# Altium schematic symbol library SCH - ARM CORTEX - ST STM32F750 TFBGA216.SCHLIB: 1 symbol
Pins are listed as number, name and electrical type; pins without a type are passive.

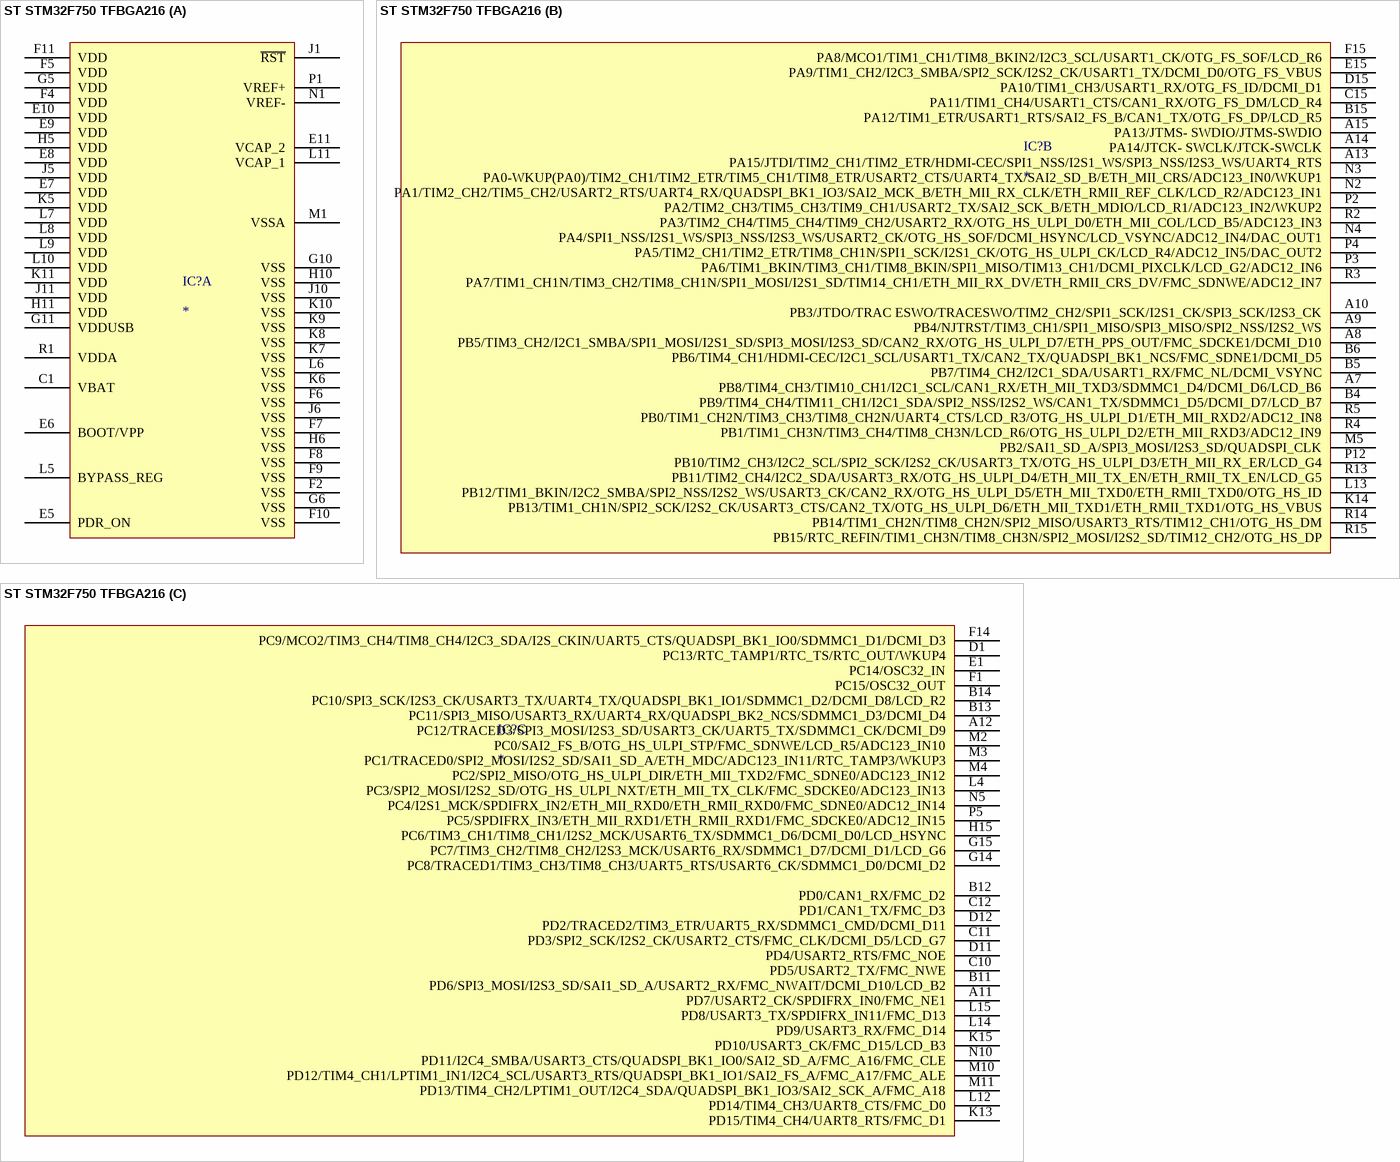
[diagram p0: symbol ST STM32F750 TFBGA216]

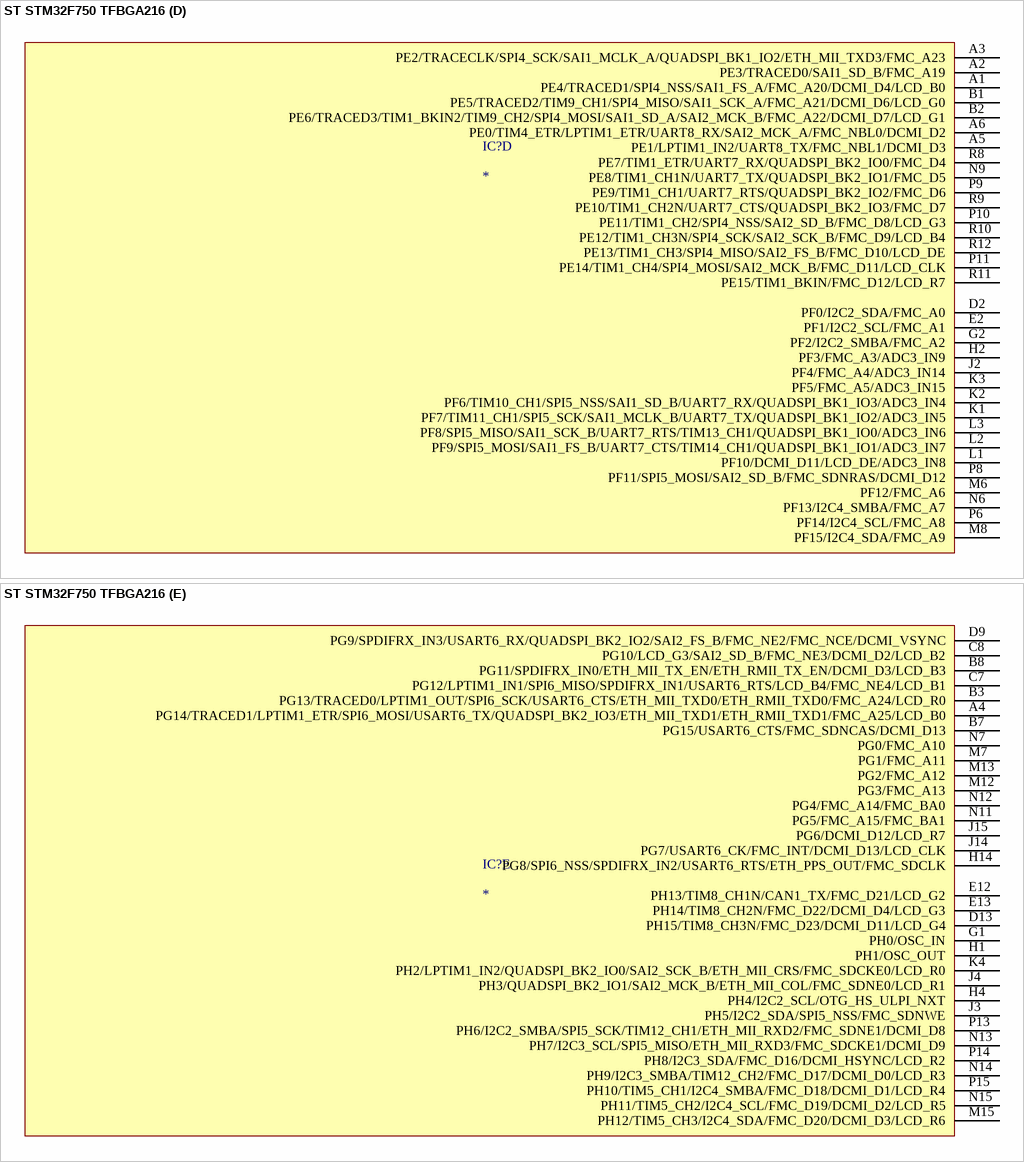
[diagram p1: symbol ST STM32F750 TFBGA216]

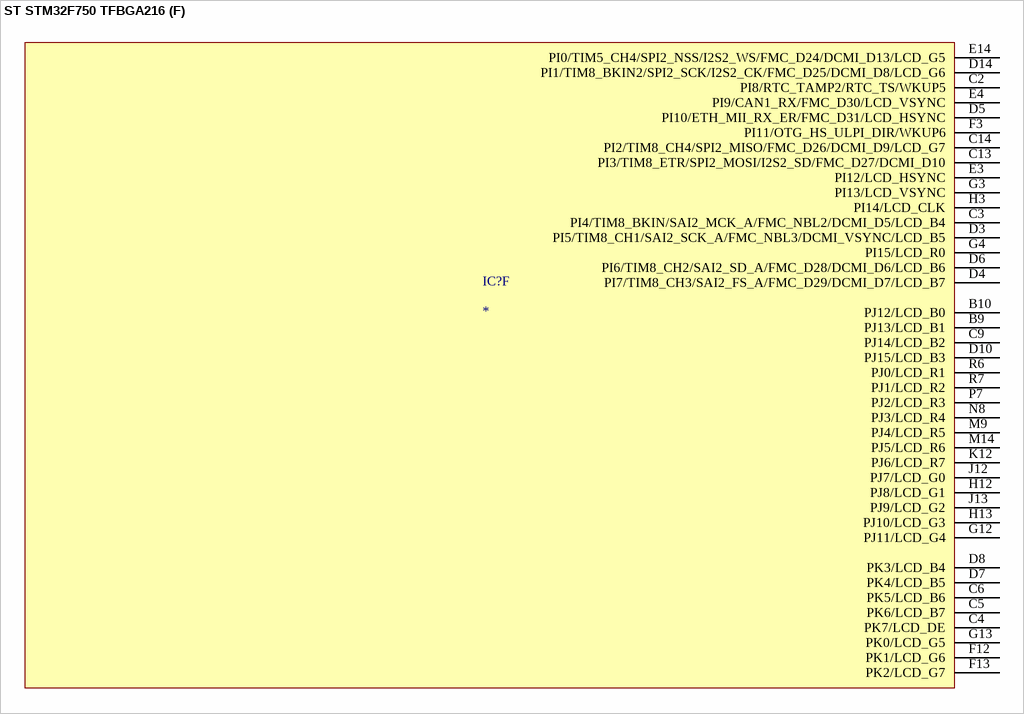
[diagram p2: symbol ST STM32F750 TFBGA216]

## ST STM32F750 TFBGA216
designator IC?
part A pins: C1 VBAT, E5 PDR_ON, E6 BOOT/VPP, E7 VDD, E8 VDD, E9 VDD, E10 VDD, E11 VCAP_2, F2 VSS, F4 VDD, F5 VDD, F6 VSS, F7 VSS, F8 VSS, F9 VSS, F10 VSS, F11 VDD, G5 VDD, G6 VSS, G10 VSS, G11 VDDUSB, H5 VDD, H6 VSS, H10 VSS, H11 VDD, J1 ~{RST}, J5 VDD, J6 VSS, J10 VSS, J11 VDD, K5 VDD, K6 VSS, K7 VSS, K8 VSS, K9 VSS, K10 VSS, K11 VDD, L5 BYPASS_REG, L6 VSS, L7 VDD, L8 VDD, L9 VDD, L10 VDD, L11 VCAP_1, M1 VSSA, N1 VREF-, P1 VREF+, R1 VDDA
part B pins: A7 PB8/TIM4_CH3/TIM10_CH1/I2C1_SCL/CAN1_RX/ETH_MII_TXD3/SDMMC1_D4/DCMI_D6/LCD_B6, A8 PB5/TIM3_CH2/I2C1_SMBA/SPI1_MOSI/I2S1_SD/SPI3_MOSI/I2S3_SD/CAN2_RX/OTG_HS_ULPI_D7/ETH_PPS_OUT/FMC_SDCKE1/DCMI_D10, A9 PB4/NJTRST/TIM3_CH1/SPI1_MISO/SPI3_MISO/SPI2_NSS/I2S2_WS, A10 PB3/JTDO/TRAC ESWO/TRACESWO/TIM2_CH2/SPI1_SCK/I2S1_CK/SPI3_SCK/I2S3_CK, A13 PA15/JTDI/TIM2_CH1/TIM2_ETR/HDMI-CEC/SPI1_NSS/I2S1_WS/SPI3_NSS/I2S3_WS/UART4_RTS, A14 PA14/JTCK- SWCLK/JTCK-SWCLK, A15 PA13/JTMS- SWDIO/JTMS-SWDIO, B4 PB9/TIM4_CH4/TIM11_CH1/I2C1_SDA/SPI2_NSS/I2S2_WS/CAN1_TX/SDMMC1_D5/DCMI_D7/LCD_B7, B5 PB7/TIM4_CH2/I2C1_SDA/USART1_RX/FMC_NL/DCMI_VSYNC, B6 PB6/TIM4_CH1/HDMI-CEC/I2C1_SCL/USART1_TX/CAN2_TX/QUADSPI_BK1_NCS/FMC_SDNE1/DCMI_D5, B15 PA12/TIM1_ETR/USART1_RTS/SAI2_FS_B/CAN1_TX/OTG_FS_DP/LCD_R5, C15 PA11/TIM1_CH4/USART1_CTS/CAN1_RX/OTG_FS_DM/LCD_R4, D15 PA10/TIM1_CH3/USART1_RX/OTG_FS_ID/DCMI_D1, E15 PA9/TIM1_CH2/I2C3_SMBA/SPI2_SCK/I2S2_CK/USART1_TX/DCMI_D0/OTG_FS_VBUS, F15 PA8/MCO1/TIM1_CH1/TIM8_BKIN2/I2C3_SCL/USART1_CK/OTG_FS_SOF/LCD_R6, K14 PB13/TIM1_CH1N/SPI2_SCK/I2S2_CK/USART3_CTS/CAN2_TX/OTG_HS_ULPI_D6/ETH_MII_TXD1/ETH_RMII_TXD1/OTG_HS_VBUS, L13 PB12/TIM1_BKIN/I2C2_SMBA/SPI2_NSS/I2S2_WS/USART3_CK/CAN2_RX/OTG_HS_ULPI_D5/ETH_MII_TXD0/ETH_RMII_TXD0/OTG_HS_ID, M5 PB2/SAI1_SD_A/SPI3_MOSI/I2S3_SD/QUADSPI_CLK, N2 PA1/TIM2_CH2/TIM5_CH2/USART2_RTS/UART4_RX/QUADSPI_BK1_IO3/SAI2_MCK_B/ETH_MII_RX_CLK/ETH_RMII_REF_CLK/LCD_R2/ADC123_IN1, N3 PA0-WKUP(PA0)/TIM2_CH1/TIM2_ETR/TIM5_CH1/TIM8_ETR/USART2_CTS/UART4_TX/SAI2_SD_B/ETH_MII_CRS/ADC123_IN0/WKUP1, N4 PA4/SPI1_NSS/I2S1_WS/SPI3_NSS/I2S3_WS/USART2_CK/OTG_HS_SOF/DCMI_HSYNC/LCD_VSYNC/ADC12_IN4/DAC_OUT1, P2 PA2/TIM2_CH3/TIM5_CH3/TIM9_CH1/USART2_TX/SAI2_SCK_B/ETH_MDIO/LCD_R1/ADC123_IN2/WKUP2, P3 PA6/TIM1_BKIN/TIM3_CH1/TIM8_BKIN/SPI1_MISO/TIM13_CH1/DCMI_PIXCLK/LCD_G2/ADC12_IN6, P4 PA5/TIM2_CH1/TIM2_ETR/TIM8_CH1N/SPI1_SCK/I2S1_CK/OTG_HS_ULPI_CK/LCD_R4/ADC12_IN5/DAC_OUT2, P12 PB10/TIM2_CH3/I2C2_SCL/SPI2_SCK/I2S2_CK/USART3_TX/OTG_HS_ULPI_D3/ETH_MII_RX_ER/LCD_G4, R2 PA3/TIM2_CH4/TIM5_CH4/TIM9_CH2/USART2_RX/OTG_HS_ULPI_D0/ETH_MII_COL/LCD_B5/ADC123_IN3, R3 PA7/TIM1_CH1N/TIM3_CH2/TIM8_CH1N/SPI1_MOSI/I2S1_SD/TIM14_CH1/ETH_MII_RX_DV/ETH_RMII_CRS_DV/FMC_SDNWE/ADC12_IN7, R4 PB1/TIM1_CH3N/TIM3_CH4/TIM8_CH3N/LCD_R6/OTG_HS_ULPI_D2/ETH_MII_RXD3/ADC12_IN9, R5 PB0/TIM1_CH2N/TIM3_CH3/TIM8_CH2N/UART4_CTS/LCD_R3/OTG_HS_ULPI_D1/ETH_MII_RXD2/ADC12_IN8, R13 PB11/TIM2_CH4/I2C2_SDA/USART3_RX/OTG_HS_ULPI_D4/ETH_MII_TX_EN/ETH_RMII_TX_EN/LCD_G5, R14 PB14/TIM1_CH2N/TIM8_CH2N/SPI2_MISO/USART3_RTS/TIM12_CH1/OTG_HS_DM, R15 PB15/RTC_REFIN/TIM1_CH3N/TIM8_CH3N/SPI2_MOSI/I2S2_SD/TIM12_CH2/OTG_HS_DP
part C pins: A11 PD7/USART2_CK/SPDIFRX_IN0/FMC_NE1, A12 PC12/TRACED3/SPI3_MOSI/I2S3_SD/USART3_CK/UART5_TX/SDMMC1_CK/DCMI_D9, B11 PD6/SPI3_MOSI/I2S3_SD/SAI1_SD_A/USART2_RX/FMC_NWAIT/DCMI_D10/LCD_B2, B12 PD0/CAN1_RX/FMC_D2, B13 PC11/SPI3_MISO/USART3_RX/UART4_RX/QUADSPI_BK2_NCS/SDMMC1_D3/DCMI_D4, B14 PC10/SPI3_SCK/I2S3_CK/USART3_TX/UART4_TX/QUADSPI_BK1_IO1/SDMMC1_D2/DCMI_D8/LCD_R2, C10 PD5/USART2_TX/FMC_NWE, C11 PD3/SPI2_SCK/I2S2_CK/USART2_CTS/FMC_CLK/DCMI_D5/LCD_G7, C12 PD1/CAN1_TX/FMC_D3, D1 PC13/RTC_TAMP1/RTC_TS/RTC_OUT/WKUP4, D11 PD4/USART2_RTS/FMC_NOE, D12 PD2/TRACED2/TIM3_ETR/UART5_RX/SDMMC1_CMD/DCMI_D11, E1 PC14/OSC32_IN, F1 PC15/OSC32_OUT, F14 PC9/MCO2/TIM3_CH4/TIM8_CH4/I2C3_SDA/I2S_CKIN/UART5_CTS/QUADSPI_BK1_IO0/SDMMC1_D1/DCMI_D3, G14 PC8/TRACED1/TIM3_CH3/TIM8_CH3/UART5_RTS/USART6_CK/SDMMC1_D0/DCMI_D2, G15 PC7/TIM3_CH2/TIM8_CH2/I2S3_MCK/USART6_RX/SDMMC1_D7/DCMI_D1/LCD_G6, H15 PC6/TIM3_CH1/TIM8_CH1/I2S2_MCK/USART6_TX/SDMMC1_D6/DCMI_D0/LCD_HSYNC, K13 PD15/TIM4_CH4/UART8_RTS/FMC_D1, K15 PD10/USART3_CK/FMC_D15/LCD_B3, L4 PC3/SPI2_MOSI/I2S2_SD/OTG_HS_ULPI_NXT/ETH_MII_TX_CLK/FMC_SDCKE0/ADC123_IN13, L12 PD14/TIM4_CH3/UART8_CTS/FMC_D0, L14 PD9/USART3_RX/FMC_D14, L15 PD8/USART3_TX/SPDIFRX_IN11/FMC_D13, M2 PC0/SAI2_FS_B/OTG_HS_ULPI_STP/FMC_SDNWE/LCD_R5/ADC123_IN10, M3 PC1/TRACED0/SPI2_MOSI/I2S2_SD/SAI1_SD_A/ETH_MDC/ADC123_IN11/RTC_TAMP3/WKUP3, M4 PC2/SPI2_MISO/OTG_HS_ULPI_DIR/ETH_MII_TXD2/FMC_SDNE0/ADC123_IN12, M10 PD12/TIM4_CH1/LPTIM1_IN1/I2C4_SCL/USART3_RTS/QUADSPI_BK1_IO1/SAI2_FS_A/FMC_A17/FMC_ALE, M11 PD13/TIM4_CH2/LPTIM1_OUT/I2C4_SDA/QUADSPI_BK1_IO3/SAI2_SCK_A/FMC_A18, N5 PC4/I2S1_MCK/SPDIFRX_IN2/ETH_MII_RXD0/ETH_RMII_RXD0/FMC_SDNE0/ADC12_IN14, N10 PD11/I2C4_SMBA/USART3_CTS/QUADSPI_BK1_IO0/SAI2_SD_A/FMC_A16/FMC_CLE, P5 PC5/SPDIFRX_IN3/ETH_MII_RXD1/ETH_RMII_RXD1/FMC_SDCKE0/ADC12_IN15
part D pins: A1 PE4/TRACED1/SPI4_NSS/SAI1_FS_A/FMC_A20/DCMI_D4/LCD_B0, A2 PE3/TRACED0/SAI1_SD_B/FMC_A19, A3 PE2/TRACECLK/SPI4_SCK/SAI1_MCLK_A/QUADSPI_BK1_IO2/ETH_MII_TXD3/FMC_A23, A5 PE1/LPTIM1_IN2/UART8_TX/FMC_NBL1/DCMI_D3, A6 PE0/TIM4_ETR/LPTIM1_ETR/UART8_RX/SAI2_MCK_A/FMC_NBL0/DCMI_D2, B1 PE5/TRACED2/TIM9_CH1/SPI4_MISO/SAI1_SCK_A/FMC_A21/DCMI_D6/LCD_G0, B2 PE6/TRACED3/TIM1_BKIN2/TIM9_CH2/SPI4_MOSI/SAI1_SD_A/SAI2_MCK_B/FMC_A22/DCMI_D7/LCD_G1, D2 PF0/I2C2_SDA/FMC_A0, E2 PF1/I2C2_SCL/FMC_A1, G2 PF2/I2C2_SMBA/FMC_A2, H2 PF3/FMC_A3/ADC3_IN9, J2 PF4/FMC_A4/ADC3_IN14, K1 PF7/TIM11_CH1/SPI5_SCK/SAI1_MCLK_B/UART7_TX/QUADSPI_BK1_IO2/ADC3_IN5, K2 PF6/TIM10_CH1/SPI5_NSS/SAI1_SD_B/UART7_RX/QUADSPI_BK1_IO3/ADC3_IN4, K3 PF5/FMC_A5/ADC3_IN15, L1 PF10/DCMI_D11/LCD_DE/ADC3_IN8, L2 PF9/SPI5_MOSI/SAI1_FS_B/UART7_CTS/TIM14_CH1/QUADSPI_BK1_IO1/ADC3_IN7, L3 PF8/SPI5_MISO/SAI1_SCK_B/UART7_RTS/TIM13_CH1/QUADSPI_BK1_IO0/ADC3_IN6, M6 PF12/FMC_A6, M8 PF15/I2C4_SDA/FMC_A9, N6 PF13/I2C4_SMBA/FMC_A7, N9 PE8/TIM1_CH1N/UART7_TX/QUADSPI_BK2_IO1/FMC_D5, P6 PF14/I2C4_SCL/FMC_A8, P8 PF11/SPI5_MOSI/SAI2_SD_B/FMC_SDNRAS/DCMI_D12, P9 PE9/TIM1_CH1/UART7_RTS/QUADSPI_BK2_IO2/FMC_D6, P10 PE11/TIM1_CH2/SPI4_NSS/SAI2_SD_B/FMC_D8/LCD_G3, P11 PE14/TIM1_CH4/SPI4_MOSI/SAI2_MCK_B/FMC_D11/LCD_CLK, R8 PE7/TIM1_ETR/UART7_RX/QUADSPI_BK2_IO0/FMC_D4, R9 PE10/TIM1_CH2N/UART7_CTS/QUADSPI_BK2_IO3/FMC_D7, R10 PE12/TIM1_CH3N/SPI4_SCK/SAI2_SCK_B/FMC_D9/LCD_B4, R11 PE15/TIM1_BKIN/FMC_D12/LCD_R7, R12 PE13/TIM1_CH3/SPI4_MISO/SAI2_FS_B/FMC_D10/LCD_DE
part E pins: A4 PG14/TRACED1/LPTIM1_ETR/SPI6_MOSI/USART6_TX/QUADSPI_BK2_IO3/ETH_MII_TXD1/ETH_RMII_TXD1/FMC_A25/LCD_B0, B3 PG13/TRACED0/LPTIM1_OUT/SPI6_SCK/USART6_CTS/ETH_MII_TXD0/ETH_RMII_TXD0/FMC_A24/LCD_R0, B7 PG15/USART6_CTS/FMC_SDNCAS/DCMI_D13, B8 PG11/SPDIFRX_IN0/ETH_MII_TX_EN/ETH_RMII_TX_EN/DCMI_D3/LCD_B3, C7 PG12/LPTIM1_IN1/SPI6_MISO/SPDIFRX_IN1/USART6_RTS/LCD_B4/FMC_NE4/LCD_B1, C8 PG10/LCD_G3/SAI2_SD_B/FMC_NE3/DCMI_D2/LCD_B2, D9 PG9/SPDIFRX_IN3/USART6_RX/QUADSPI_BK2_IO2/SAI2_FS_B/FMC_NE2/FMC_NCE/DCMI_VSYNC, D13 PH15/TIM8_CH3N/FMC_D23/DCMI_D11/LCD_G4, E12 PH13/TIM8_CH1N/CAN1_TX/FMC_D21/LCD_G2, E13 PH14/TIM8_CH2N/FMC_D22/DCMI_D4/LCD_G3, G1 PH0/OSC_IN, H1 PH1/OSC_OUT, H4 PH4/I2C2_SCL/OTG_HS_ULPI_NXT, H14 PG8/SPI6_NSS/SPDIFRX_IN2/USART6_RTS/ETH_PPS_OUT/FMC_SDCLK, J3 PH5/I2C2_SDA/SPI5_NSS/FMC_SDNWE, J4 PH3/QUADSPI_BK2_IO1/SAI2_MCK_B/ETH_MII_COL/FMC_SDNE0/LCD_R1, J14 PG7/USART6_CK/FMC_INT/DCMI_D13/LCD_CLK, J15 PG6/DCMI_D12/LCD_R7, K4 PH2/LPTIM1_IN2/QUADSPI_BK2_IO0/SAI2_SCK_B/ETH_MII_CRS/FMC_SDCKE0/LCD_R0, M7 PG1/FMC_A11, M12 PG3/FMC_A13, M13 PG2/FMC_A12, M15 PH12/TIM5_CH3/I2C4_SDA/FMC_D20/DCMI_D3/LCD_R6, N7 PG0/FMC_A10, N11 PG5/FMC_A15/FMC_BA1, N12 PG4/FMC_A14/FMC_BA0, N13 PH7/I2C3_SCL/SPI5_MISO/ETH_MII_RXD3/FMC_SDCKE1/DCMI_D9, N14 PH9/I2C3_SMBA/TIM12_CH2/FMC_D17/DCMI_D0/LCD_R3, N15 PH11/TIM5_CH2/I2C4_SCL/FMC_D19/DCMI_D2/LCD_R5, P13 PH6/I2C2_SMBA/SPI5_SCK/TIM12_CH1/ETH_MII_RXD2/FMC_SDNE1/DCMI_D8, P14 PH8/I2C3_SDA/FMC_D16/DCMI_HSYNC/LCD_R2, P15 PH10/TIM5_CH1/I2C4_SMBA/FMC_D18/DCMI_D1/LCD_R4
part F pins: B9 PJ13/LCD_B1, B10 PJ12/LCD_B0, C2 PI8/RTC_TAMP2/RTC_TS/WKUP5, C3 PI4/TIM8_BKIN/SAI2_MCK_A/FMC_NBL2/DCMI_D5/LCD_B4, C4 PK7/LCD_DE, C5 PK6/LCD_B7, C6 PK5/LCD_B6, C9 PJ14/LCD_B2, C13 PI3/TIM8_ETR/SPI2_MOSI/I2S2_SD/FMC_D27/DCMI_D10, C14 PI2/TIM8_CH4/SPI2_MISO/FMC_D26/DCMI_D9/LCD_G7, D3 PI5/TIM8_CH1/SAI2_SCK_A/FMC_NBL3/DCMI_VSYNC/LCD_B5, D4 PI7/TIM8_CH3/SAI2_FS_A/FMC_D29/DCMI_D7/LCD_B7, D5 PI10/ETH_MII_RX_ER/FMC_D31/LCD_HSYNC, D6 PI6/TIM8_CH2/SAI2_SD_A/FMC_D28/DCMI_D6/LCD_B6, D7 PK4/LCD_B5, D8 PK3/LCD_B4, D10 PJ15/LCD_B3, D14 PI1/TIM8_BKIN2/SPI2_SCK/I2S2_CK/FMC_D25/DCMI_D8/LCD_G6, E3 PI12/LCD_HSYNC, E4 PI9/CAN1_RX/FMC_D30/LCD_VSYNC, E14 PI0/TIM5_CH4/SPI2_NSS/I2S2_WS/FMC_D24/DCMI_D13/LCD_G5, F3 PI11/OTG_HS_ULPI_DIR/WKUP6, F12 PK1/LCD_G6, F13 PK2/LCD_G7, G3 PI13/LCD_VSYNC, G4 PI15/LCD_R0, G12 PJ11/LCD_G4, G13 PK0/LCD_G5, H3 PI14/LCD_CLK, H12 PJ8/LCD_G1, H13 PJ10/LCD_G3, J12 PJ7/LCD_G0, J13 PJ9/LCD_G2, K12 PJ6/LCD_R7, M9 PJ4/LCD_R5, M14 PJ5/LCD_R6, N8 PJ3/LCD_R4, P7 PJ2/LCD_R3, R6 PJ0/LCD_R1, R7 PJ1/LCD_R2